# EAGLE library part TUSB2077 (library TI)
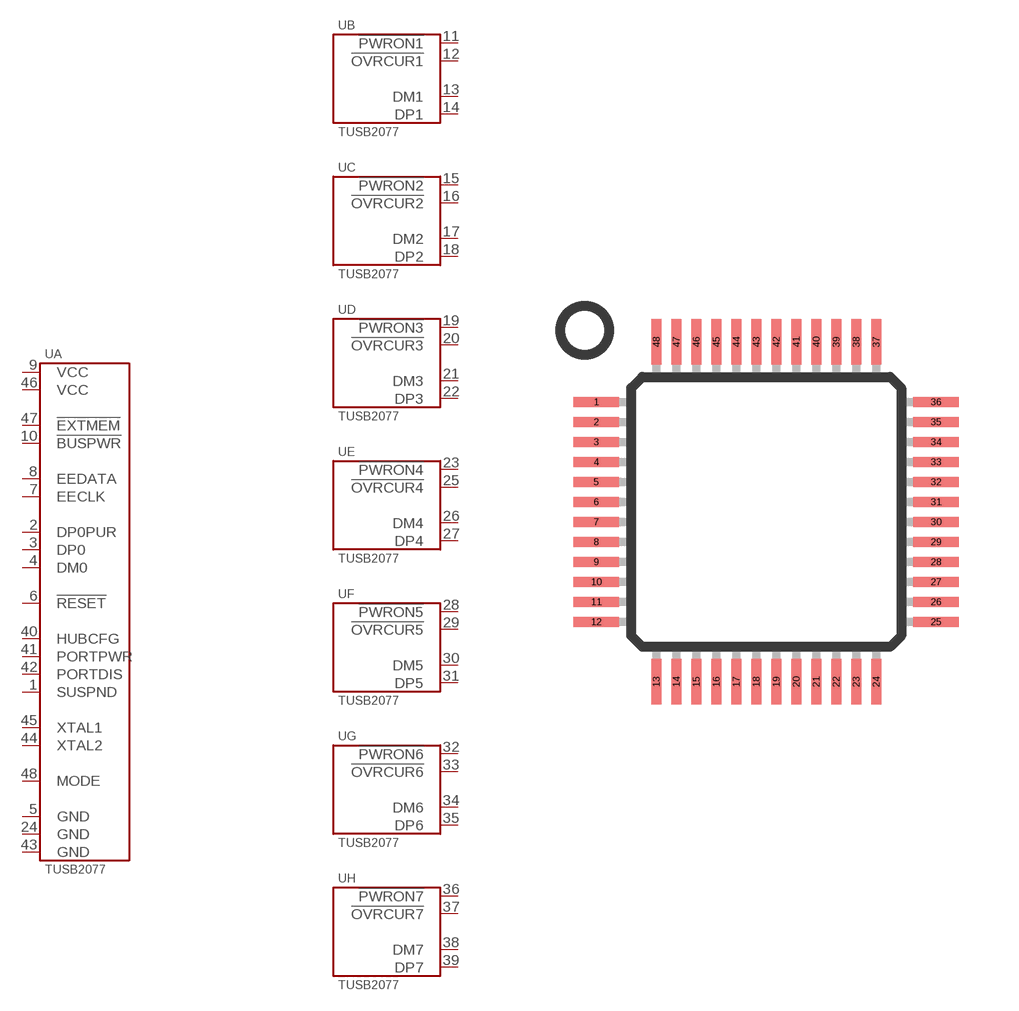
[diagram p3: symbol with the pads of LQFP-48; footprint LQFP-48]

Designator prefix U; gates A=TUSB2077 B=TUSB2077-1 C=TUSB2077-2 D=TUSB2077-3 E=TUSB2077-4 F=TUSB2077-5 G=TUSB2077-6 H=TUSB2077-7

## TUSB2077  [LQFP-48]
1  A:SUSPND
2  A:DP0PUR
3  A:DP0
4  A:DM0
5  A:GND
6  A:!RESET
7  A:EECLK
8  A:EEDATA
9  A:VCC
10  A:!BUSPWR
11  B:!PWRON1
12  B:!OVRCUR1
13  B:DM1
14  B:DP1
15  C:!PWRON2
16  C:!OVRCUR2
17  C:DM2
18  C:DP2
19  D:!PWRON3
20  D:!OVRCUR3
21  D:DM3
22  D:DP3
23  E:!PWRON4
24  A:GND
25  E:!OVRCUR4
26  E:DM4
27  E:DP4
28  F:!PWRON5
29  F:!OVRCUR5
30  F:DM5
31  F:DP5
32  G:!PWRON6
33  G:!OVRCUR6
34  G:DM6
35  G:DP6
36  H:!PWRON7
37  H:!OVRCUR7
38  H:DM7
39  H:DP7
40  A:HUBCFG
41  A:PORTPWR
42  A:PORTDIS
43  A:GND
44  A:XTAL2
45  A:XTAL1
46  A:VCC
47  A:!EXTMEM
48  A:MODE

## Footprint LQFP-48 (pad centres in mm)
smd 1.143 x 0.254: 1 -4.25,2.75; 2 -4.25,2.25; 3 -4.25,1.75; 4 -4.25,1.25; 5 -4.25,0.75; 6 -4.25,0.25; 7 -4.25,-0.25; 8 -4.25,-0.75; 9 -4.25,-1.25; 10 -4.25,-1.75; 11 -4.25,-2.25; 12 -4.25,-2.75; 25 4.25,-2.75; 26 4.25,-2.25; 27 4.25,-1.75; 28 4.25,-1.25; 29 4.25,-0.75; 30 4.25,-0.25; 31 4.25,0.25; 32 4.25,0.75; 33 4.25,1.25; 34 4.25,1.75; 35 4.25,2.25; 36 4.25,2.75
smd 0.254 x 1.143: 13 -2.75,-4.25; 14 -2.25,-4.25; 15 -1.75,-4.25; 16 -1.25,-4.25; 17 -0.75,-4.25; 18 -0.25,-4.25; 19 0.25,-4.25; 20 0.75,-4.25; 21 1.25,-4.25; 22 1.75,-4.25; 23 2.25,-4.25; 24 2.75,-4.25; 37 2.75,4.25; 38 2.25,4.25; 39 1.75,4.25; 40 1.25,4.25; 41 0.75,4.25; 42 0.25,4.25; 43 -0.25,4.25; 44 -0.75,4.25; 45 -1.25,4.25; 46 -1.75,4.25; 47 -2.25,4.25; 48 -2.75,4.25